# Altium footprint library SOP_102P_M.PcbLib: 1 footprints
Each footprint in its own frame and in the unit in brackets; x right, y up, seen from the top. Pads: shape width x height; smd on the part's side, far side on the other; paste and mask are expansions set on the pad; w line width, h text height; cw(c..) or ccw(c..) is an arc to the next point about the centre after c.
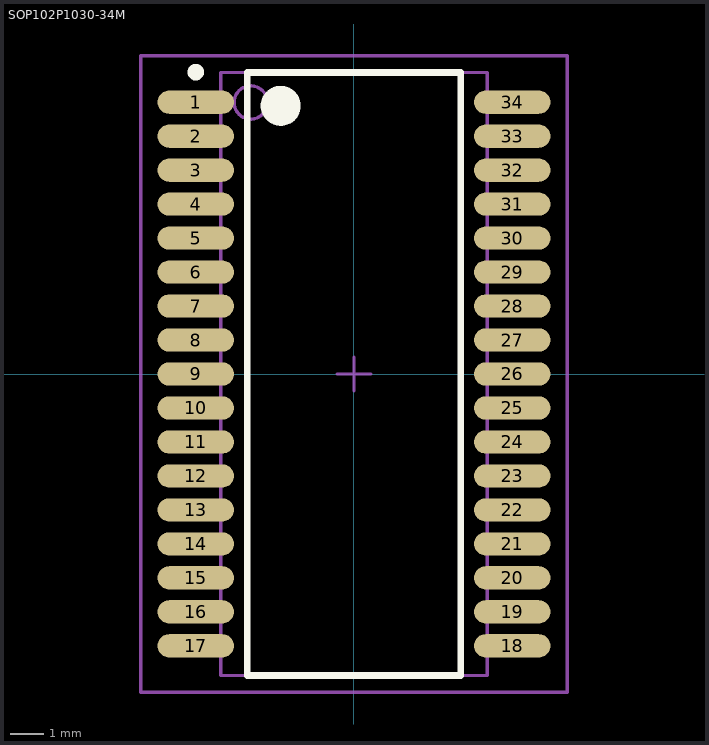
[diagram p0: the footprint, top view; thin cyan lines are the x and y axes]

## SOP102P1030-34M [mm] "34-Pin Small Outline Package 1.02 mm Pitch"
height 2.64
pads (34):
  oval 2.3x0.7 smd: 1(-4.75,8.16) 2(-4.75,7.14) 3(-4.75,6.12) 4(-4.75,5.1) 5(-4.75,4.08) 6(-4.75,3.06) 7(-4.75,2.04) 8(-4.75,1.02) 9(-4.75,0) 10(-4.75,-1.02) 11(-4.75,-2.04) 12(-4.75,-3.06) 13(-4.75,-4.08) 14(-4.75,-5.1) 15(-4.75,-6.12) 16(-4.75,-7.14) 17(-4.75,-8.16) 18(4.75,-8.16) 19(4.75,-7.14) 20(4.75,-6.12) 21(4.75,-5.1) 22(4.75,-4.08) 23(4.75,-3.06) 24(4.75,-2.04) 25(4.75,-1.02) 26(4.75,0) 27(4.75,1.02) 28(4.75,2.04) 29(4.75,3.06) 30(4.75,4.08) 31(4.75,5.1) 32(4.75,6.12) 33(4.75,7.14) 34(4.75,8.16)
Top Overlay:
  circle w0.6: c-2.2,8.05 r0.3
  circle w0.25: c-4.75,9.06 r0.125
  lines w0.2: -3.2,-9.05 3.2,-9.05 3.2,9.05 -3.2,9.05 -3.2,-9.05
Mechanical 13:
  circle w0.1: c-3.1,8.15 r0.5
  lines w0.1: -4,-9.05 4,-9.05 4,9.05 -4,9.05 -4,-9.05
Mechanical 15:
  lines w0.1: -0.5,0 0.5,0 ; 0,-0.5 0,0.5 ; -6.4,-9.55 6.4,-9.55 6.4,9.55 -6.4,9.55 -6.4,-9.55
3D body: height 2.64, standoff 0, extent -4,-9.05 4,9.05